# Altium schematic symbol library AD7718.SchLib: 1 symbol
Pins are listed as number, name and electrical type; pins without a type are passive.

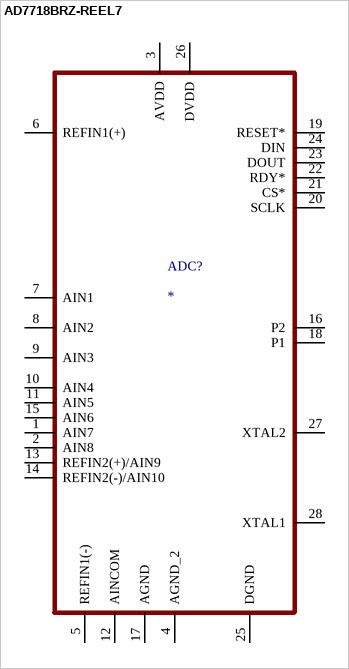
[diagram p0: symbol AD7718BRZ-REEL7]

## AD7718BRZ-REEL7
designator ADC?
24-Bit, 8/10-Channel, Low Voltage, Low Power, Sigma Delta ADC; MF: Analog Devices; MP: AD7718BRZ-REEL7; SnapEDA_Link: https://www.snapeda.com/parts/AD7718BRZ-REEL7/Analog+Devices/view-part/?ref=snap; Package: SOIC -28 Analog Devices; Value: *; Check_prices: https://www.snapeda.com/parts/AD7718BRZ-REEL7/Analog+Devices/view-part/?ref=eda
footprint SOIC127P1032X265-28N
pins: 1 AIN7, 2 AIN8, 3 AVDD (power), 4 AGND_2, 5 REFIN1(-), 6 REFIN1(+), 7 AIN1, 8 AIN2, 9 AIN3, 10 AIN4, 11 AIN5, 12 AINCOM, 13 REFIN2(+)/AIN9, 14 REFIN2(-)/AIN10, 15 AIN6, 16 P2, 17 AGND, 18 P1, 19 RESET*, 20 SCLK, 21 CS*, 22 RDY*, 23 DOUT, 24 DIN, 25 DGND, 26 DVDD (power), 27 XTAL2, 28 XTAL1